# EAGLE library part TP4056 (library TP4056 charging module with protection)
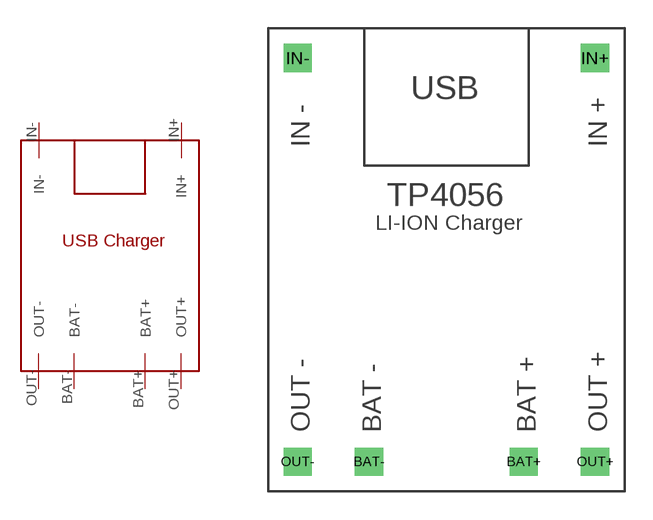
[diagram p0: symbol with the pads of TP4056; footprint TP4056]

Designator prefix -

## TP4056  [TP4056]
BAT+  BAT+
BAT-  BAT-
IN+  IN+
IN-  IN-
OUT+  OUT+
OUT-  OUT-

## Footprint TP4056 (pad centres in mm)
drill 1 pad 1.422 square: BAT+ 4.763,-10.477; BAT- -3.493,-10.477; IN+ 8.565,11.105; IN- -7.295,11.105; OUT+ 8.572,-10.477; OUT- -7.303,-10.477